# Altium schematic symbol library 74HC595D_112.SchLib: 1 symbol
Pins are listed as number, name and electrical type; pins without a type are passive.

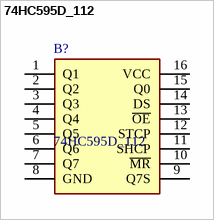
[diagram p0: symbol 74HC595D_112]

## 74HC595D_112
designator B?
74HC(T)595 - 8-bit serial-in, serial or parallel-out shift register with output latches; 3-state@en-us; Manufacturer_Name: Nexperia; Manufacturer_Part_Number: 74HC595D,112; Geometry.Height: 1.75mm; Mouser Part Number: 771-74HC595D; Mouser Price/Stock: https://www.mouser.co.uk/ProductDetail/Nexperia/74HC595D112?qs=P62ublwmbi9CWen68lvwew%3D%3D; Arrow Part Number: 74HC595D,112; Arrow Price/Stock: https://www.arrow.com/en/products/74hc595d112/nexperia?region=nac; Datasheet Link: https://assets.nexperia.com/documents/data-sheet/74HC_HCT595.pdf
footprint SOIC127P600X175-16N
pins: 1 Q1, 2 Q2, 3 Q3, 4 Q4, 5 Q5, 6 Q6, 7 Q7, 8 GND, 9 Q7S, 10 ~{MR}, 11 SHCP, 12 STCP, 13 ~{OE}, 14 DS, 15 Q0, 16 VCC